# Altium schematic symbol library PTPS2117DRLR.SchLib: 1 symbol
Pins are listed as number, name and electrical type; pins without a type are passive.

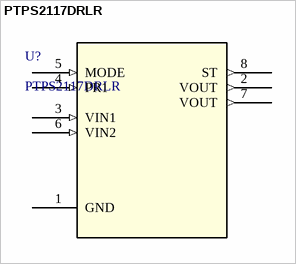
[diagram p0: symbol PTPS2117DRLR]

## PTPS2117DRLR
designator U?
1.6-V to 5.5-V, 20-mâ„¦, 4-A low IQ power multiplexer with manual and priority switchover 8-SOT-5X3 -40 to 125; Manufacturer_Name: Texas Instruments; Type: Power Management; Copyright: Copyright (C) 2026 Ultra Librarian. All rights reserved.; Manufacturer_Part_Number: PTPS2117DRLR; RefDes: RefDes
footprint SOT-5X3-8_DRL_TEX
pins: 1 GND (power), 2 VOUT (out), 3 VIN1 (in), 4 PR1 (in), 5 MODE (in), 6 VIN2 (in), 7 VOUT (out), 8 ST (out)